# Altium integrated library MC33290.IntLib: 1 symbol
Pins are listed as number, name and electrical type; pins without a type are passive.

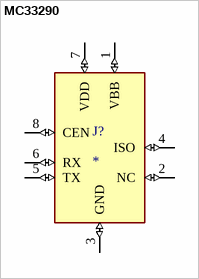
[diagram p0: symbol MC33290]

## MC33290
designator J?
Heat Sink; Packages Cooled:TO-220; Thermal Resistance:8.8Â°C/W; Width:34.5mm; Height:50mm; Length:12.5mm; Mounting Type:PC Board Thru Hole; Package / Case:TO-220 ;RoHS Compliant: Yes; MP: MC33290; MF: NXP USA; Check_prices: https://www.snapeda.com/parts/MC33290/NXP+USA+Inc./view-part/?ref=eda; Package: TO-220-3 ON Semiconductor; Value: *; SnapEDA_Link: https://www.snapeda.com/parts/MC33290/NXP+USA+Inc./view-part/?ref=snap; Availability: In Stock; Price: None
footprint SO08
pins: 1 VBB (io), 2 NC (io), 3 GND (io), 4 ISO (io), 5 TX (io), 6 RX (io), 7 VDD (io), 8 CEN (io)